# EAGLE library part LT4356-*MS (library LT4356_rev10)
Power Supply Protection IC made by Linear Technology at www.linear.com Device Model created 2011-06-25 by Mario Blunk - electronics & IT engineering at www.train-z.de
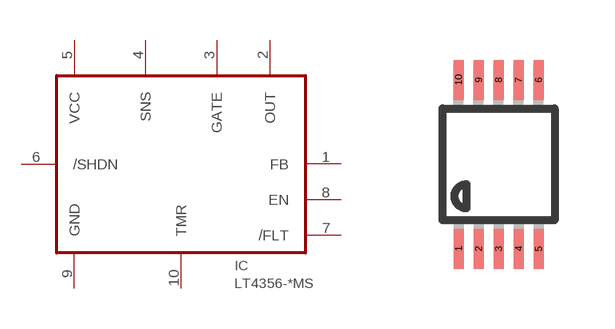
[diagram p1: symbol with the pads of MSOP10; footprint MSOP10]

Designator prefix IC

## LT4356-1MS (FINISH: LEAD_FREE; INTERNAL_CODE: NCC-1701B; TAPE_REEL: YES; TEMP_RANGE: MIL), LT4356-2MS (FINISH: LEAD_FREE; INTERNAL_CODE: NCC-1701C; TAPE_REEL: YES; TEMP_RANGE: MIL)  [MSOP10]
1  FB  in
2  OUT  in
3  GATE  out
4  SNS  in
5  VCC  pwr
6  /SHDN  in
7  /FLT  oc
8  EN  oc
9  GND  pwr
10  TMR  in

## Footprint MSOP10 (pad centres in mm)
10-Lead Mini Small Outline Package [MSOP] (RM-10) Source: http://www.analog.com/UploadedFiles/Data_Sheets/35641221898805SSM2167_b.pdf COMPLIANT TO JEDEC STANDARDS MO-187BA
smd 0.25 x 1: 1 -1,-2.113; 2 -0.5,-2.113; 3 0,-2.113; 4 0.5,-2.113; 5 1,-2.113; 6 1,2.113; 7 0.5,2.113; 8 0,2.113; 9 -0.5,2.113; 10 -1,2.113